# Altium integrated library PFC_Interleaved_V8.1.IntLib: 131 symbols
Pins are listed as number, name and electrical type; pins without a type are passive.

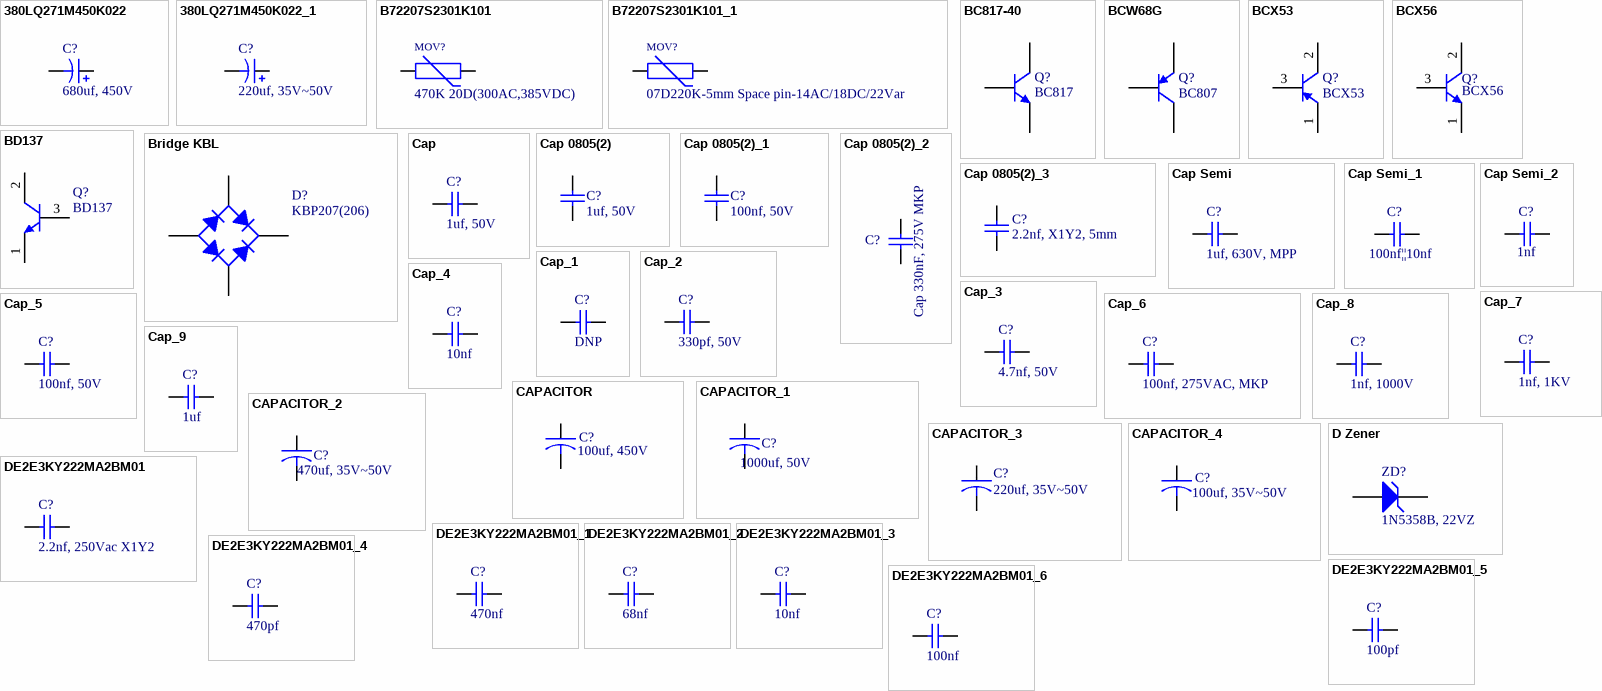
[diagram p0: symbols 380LQ271M450K022 to DE2E3KY222MA2BM01_6]

## 380LQ271M450K022
designator C?, comment 680uf, 450V
PackageReference: Can D35x50mm; Category: Cap TH; Value: 680uf, 450V
signal-integrity model Cap
simulation model Cap
footprint Radial_Cap_25x52 (Axial)
footprint cap - 30mm
footprint cap - 30mm
footprint Cap-electrolytic-680uF-2
pins: 1 +, 2 -

## 380LQ271M450K022_1
designator C?, comment 220uf, 35V~50V
PackageReference: Can D8mmx12mm; Value: 220uf, 35V~50V; Category: Cap TH
signal-integrity model Cap
simulation model Cap
footprint Radial_Cap_25x52 (Axial)
footprint cap - 30mm
footprint Cap - 10 mm
footprint CAP-Elec-8mm*12mm (Footprint not found)
pins: 1 +, 2 -

## B72207S2301K101
designator MOV?, comment 470K 20D(300AC,385VDC)
Value: 470K 20D(300AC,385VDC); PackageReference: Disc 20mm; Category: Varistor TH
footprint varistor
footprint VDR-20D
pins: 1, 2

## B72207S2301K101_1
designator MOV?, comment 07D220K-5mm Space pin-14AC/18DC/22Var
Value: 07D220K-5mm Space pin-14AC/18DC/22Var; PackageReference: Disc 7mm; Category: Varistor TH
footprint varistor
footprint VAR-7D-5mm-1200V
pins: 1, 2

## BC817-40
designator Q?, comment BC817
Value: BC817; Category: Transistor SMD; PackageReference: SOT-23
footprint SOT-23A (SOT-23; 3 Leads; Body 3.1 x 2.5 mm, inc. leads (LxW max))
simulation model BC817-40 (NPN)
signal-integrity model BC817-40
footprint SOT-23
footprint MSOT-23
footprint MSOT-23
pins: 1 B, 2 E, 3 C

## BCW68G
designator Q?, comment BC807
PackageReference: SOT-23; Value: BC807; Category: Transistor SMD
footprint SOT-23A (SOT-23; 3 Leads; Body 3.1 x 2.5 mm, inc. leads (LxW max))
footprint MSOT-23
footprint SOT-23 (SOT-23; 3 Leads; Body 3.1 x 2.5 mm, inc. leads (LxW max))
pins: 1 B, 2 E, 3 C

## BCX53
designator Q?
PackageReference: SOT89; Category: Transistor SMD; Value: BCX53
footprint TO-92A (TO, Flat Index; 3 In-Line, Axial Leads; Body Dia. 4.5mm; Leads 0.51 x 0.48 mm (max))
simulation model 2N3906 (PNP)
signal-integrity model 2N3906
footprint SOT89L-K (SOT89, 3-Leads, Body 4.5x2.4 mm, Pitch 1.5mm, Lead Span 4.1mm, IPC High Density)
pins: 1 E, 2 C, 3 B

## BCX56
designator Q?
PackageReference: SOT89; Category: Transistor SMD; Value: BCX56
footprint TO-92A (TO, Flat Index; 3 In-Line, Axial Leads; Body Dia. 4.5mm; Leads 0.51 x 0.48 mm (max))
simulation model 2N3904 (NPN)
signal-integrity model 2N3904
footprint SOT89L (SOT89, 3-Leads, Body 4.5x2.4 mm, Pitch 1.5mm, Lead Span 4.1mm, IPC High Density)
footprint SOT89L-K
pins: 1 E, 2 C, 3 B

## BD137
designator Q?
Category: Transistor TH; PackageReference: TO-126; Value: BD137
footprint BD137-K
pins: 1 E, 2 C, 3 B

## Bridge KBL
designator D?, comment KBP207(206)
Category: Diode TH; Value: KBP207(206); PackageReference: Bridge Diode TH
footprint KBL406
footprint Diode Bridge KBL
footprint DiodeBridge_KBP210
pins: 1 K, 2 C, 3 C, 4 A

## Cap
designator C?, comment 1uf, 50V
Value: 1uf, 50V; Category: Cap SMD; PackageReference: 0805
footprint 0603(2)
footprint Cap 0805(2)
footprint MKT(100nF, 630V)
footprint CAP RAD-0.3
footprint C-0805
pins: 1, 2
2 alternate drawings of the same symbol

## Cap 0805(2)
designator C?, comment 1uf, 50V
Value: 1uf, 50V; PackageReference: 0805; Category: Cap SMD
footprint 1206-Cap
footprint SMD_CAP_0805
footprint Cap-0805-j
footprint RES1206
footprint res1206
footprint R-1206
footprint C-0805
pins: 1, 2

## Cap 0805(2)_1
designator C?, comment 100nf, 50V
Value: 100nf, 50V; PackageReference: 0805; Category: Cap SMD
footprint 1206-Cap
footprint SMD_CAP_0805
footprint Cap-0805-j
footprint C-0805
footprint C-805
footprint R-0805-C
pins: 1, 2

## Cap 0805(2)_2
designator C?, comment Cap 330nF, 275V MKP
Value: Cap 330nF, 275V MKP; Category: Cap TH; PackageReference: 17x8x15mm(LWH)
footprint Cap 0805(2)
footprint Cap 1206(2)
footprint Res 0805(2)
footprint rad0.2
footprint CAP RAD-0.1
footprint CAP_PolyPro_Bipolar_9
footprint Cap-X
footprint Cap-X
footprint Cap-X-2
pins: 1, 2

## Cap 0805(2)_3
designator C?, comment 2.2nf, X1Y2, 5mm
Value: 2.2nf, X1Y2, 5mm; Category: Cap TH; PackageReference: Disc Pin Space 5mm
footprint Cap 0805(2)
footprint Cap 1206(2)
footprint Res 0805(2)
footprint rad0.2
footprint CAP RAD-0.1
footprint CAP_PolyPro_Bipolar_4
footprint Cap 10nF-2
footprint Cap-TH-5mm
pins: 1, 2

## Cap Semi
designator C?, comment 1uf, 630V, MPP
PackageReference: Radial 15mmx22mm; Value: 1uf, 630V, MPP; Category: Cap TH
simulation model CAP (Semiconductor Capacitor)
signal-integrity model Cap Semi
footprint EC-10
footprint CAP-22mm-MKT-Qourum (FilmCap)
footprint CAP-15mm-22mm-MKT-Qourum-2 (Footprint not found)
pins: 1, 2

## Cap Semi_1
designator C?, comment 100nf||10nf
Value: 100nf||10nf; Category: Cap SMD; PackageReference: 0805
footprint R0805-HV-GREEN
footprint C-0805
pins: 1, 2

## Cap Semi_2
designator C?, comment 1nf
Value: 1nf; Category: Cap SMD; PackageReference: 0805
footprint C0805-GREEN
footprint C-0805
pins: 1, 2

## Cap_1
designator C?, comment Assembly: DNP  (hidden comment: 1nf, 1KV)
Value: 1nf, 1KV; Category: Cap TH; PackageReference: Disck, 5mm Space Pin
footprint RAD-0.3 (Capacitor; 2 Leads)
simulation model CAP (Capacitor)
signal-integrity model Cap
footprint CAPR5.08-7.8X3.2
footprint CAPR2.54-5.1X3.2
footprint RAD-0.2
footprint RAD-0.4
footprint RAD-0.2-S-2 (Radial Cap, Thru-Hole; 2 Leads; 0.2 in Pin Spacing)
pins: 1, 2

## Cap_2
designator C?, comment 330pf, 50V
Value: 330pf, 50V; Category: Cap SMD; PackageReference: 0805
footprint 0603(2)
footprint Cap 0805(2)
footprint MKT(100nF, 630V)
footprint R-0805
pins: 1, 2
2 alternate drawings of the same symbol

## Cap_3
designator C?, comment 4.7nf, 50V
Value: 4.7nf, 50V; Category: Cap SMD; PackageReference: 0805
footprint 0603(2)
footprint Cap 0805(2)
footprint MKT(100nF, 630V)
footprint 0805(2)
footprint Res 0603(2)
footprint Res 0805(2)
footprint C-0805
pins: 1, 2
2 alternate drawings of the same symbol

## Cap_4
designator C?, comment 10nf
Value: 10nf; Category: Cap SMD; PackageReference: 0805
footprint 0603(2)
footprint Cap 0805(2)
footprint MKT(100nF, 630V)
footprint 0805(2)
footprint Res 0603(2)
footprint Res 0805(2)
footprint C-0805
pins: 1, 2
2 alternate drawings of the same symbol

## Cap_5
designator C?, comment 100nf, 50V
Value: 100nf, 50V; Category: Cap SMD; PackageReference: 0805
footprint 0603(2)
footprint Cap 0805(2)
footprint MKT(100nF, 630V)
footprint 0805(2)
footprint Res 0603(2)
footprint Res 0805(2)
footprint C-0805
pins: 1, 2
2 alternate drawings of the same symbol

## Cap_6
designator C?, comment 100nf, 275VAC, MKP
Value: 100nf, 275VAC, MKP; Category: Cap TH
footprint 0603(2)
footprint Cap 0805(2)
footprint MKT(100nF, 630V)
footprint CAP_PolyPro_Bipolar_1
footprint RAD-0.4-AUX (Radial Cap, Thru-Hole; 2 Leads; 0.4 in Pin Spacing)
pins: 1, 2
2 alternate drawings of the same symbol

## Cap_7
designator C?, comment 1nf, 1KV
Value: 1nf, 1KV; Category: Cap TH; PackageReference: Disk 5mm Space pin
footprint 0603(2)
footprint Cap 0805(2)
footprint MKT(100nF, 630V)
footprint CAP RAD-0.4
footprint CAP RAD-0.2
pins: 1, 2
2 alternate drawings of the same symbol

## Cap_8
designator C?, comment 1nf, 1000V
Value: 1nf, 1000V; Category: Cap SMD; PackageReference: 1206
footprint 0603(2)
footprint Cap 0805(2)
footprint MKT(100nF, 630V)
footprint CAP RAD-0.3
footprint C-1206
pins: 1, 2
2 alternate drawings of the same symbol

## Cap_9
designator C?, comment 1uf
Value: 1uf; Category: Cap SMD; PackageReference: 0805
footprint 0603(2)
footprint Cap 0805(2)
footprint MKT(100nF, 630V)
footprint 0805(2)
footprint Res 0603(2)
footprint Res 0805(2)
footprint C-0805
pins: 1, 2
2 alternate drawings of the same symbol

## CAPACITOR
designator C?, comment 100uf, 450V
Value: 100uf, 450V; Category: Cap TH; PackageReference: Can D18mmx35mm
footprint 2220(2)
footprint Cap_Tantal_1
footprint Cap RAD2-5x6.8
footprint Cap_Electrolytic6
footprint Cap Elec(56uF,450V)
footprint Cap_Electrolytic3
footprint Cap RAD7.5-16x35-2
pins: 1, 2

## CAPACITOR_1
designator C?, comment 1000uf, 50V
Value: 1000uf, 50V; Category: Cap TH; PackageReference: Can D12mmx25mm
footprint 2220(2)
footprint Cap_Tantal_1
footprint Cap RAD2-5x6.8
footprint Cap_Electrolytic6
footprint Cap_Electrolytic2
footprint Cap_Electrolytic4
footprint Cap_Electrolytic3
footprint Cap-Elec-12mm*25mm (470uF, 35V)
pins: 1, 2

## CAPACITOR_2
designator C?, comment 470uf, 35V~50V
Value: 470uf, 35V~50V; Category: Cap TH; PackageReference: Can D10mmx20MM
footprint 2220(2)
footprint Cap_Tantal_1
footprint Cap RAD2-5x6.8
footprint Cap_Electrolytic6
footprint Cap_Electrolytic4
footprint Cap_Electrolytic3
footprint Cap_Electrolytic1
pins: 1, 2

## CAPACITOR_3
designator C?, comment 220uf, 35V~50V
Value: 220uf, 35V~50V; Category: Cap TH; PackageReference: Can D8mmx12mm
footprint 2220(2)
footprint Cap_Tantal_1
footprint Cap RAD2-5x6.8
footprint Cap_Electrolytic6
footprint Cap_Electrolytic9
footprint Cap 1206(2)
footprint Cap RAD5-5x5
footprint Cap_Electrolytic8
footprint CAP-Elec-8mm*12mm ((220uF,25V))
pins: 1, 2

## CAPACITOR_4
designator C?, comment 100uf, 35V~50V
Value: 100uf, 35V~50V; Category: Cap TH; PackageReference: Can D8mmx12mm
footprint 2220(2)
footprint Cap_Tantal_1
footprint Cap RAD2-5x6.8
footprint Cap_Electrolytic6
footprint Cap_Electrolytic9
footprint Cap 1206(2)
footprint Cap RAD5-5x5
footprint Cap_Electrolytic8
footprint Cap_Electrolytic5
pins: 1, 2

## D Zener
designator ZD?, comment 1N5358B, 22VZ
Value: 1N5358B, 22VZ; Category: Diode TH; PackageReference: DO-35-2
footprint Diode_Vertical3
pins: 1 A, 2 K

## DE2E3KY222MA2BM01
designator C?, comment 2.2nf, 250Vac X1Y2
Value: 2.2nf, 250Vac X1Y2; PackageReference: Disk D8x5mm; Category: Cap TH
signal-integrity model Cap
simulation model Cap
footprint Caprad_7.5mm (RADIAL CAPACITOR)
footprint Caprad_7.5mm (RADIAL CAPACITOR)
footprint Cap 10nF-2
footprint rad-0.2 (Radial Cap, Thru-Hole; 2 Leads; 0.2 in Pin Spacing)
footprint CAP RAD-0.2
footprint CAP-RAD-7.5mm-PFC
pins: 1, 2

## DE2E3KY222MA2BM01_1
designator C?, comment 470nf
Value: 470nf; PackageReference: 0805; Category: Cap SMD
signal-integrity model Cap
simulation model Cap
footprint Caprad_7.5mm (RADIAL CAPACITOR)
footprint Caprad_7.5mm (RADIAL CAPACITOR)
footprint Cap 10nF-2
footprint RESISTOR-RESC2012-0805
footprint R-0805
footprint C-0805
pins: 1, 2

## DE2E3KY222MA2BM01_2
designator C?, comment 68nf
Value: 68nf; PackageReference: 0805; Category: Cap SMD
signal-integrity model Cap
simulation model Cap
footprint Caprad_7.5mm (RADIAL CAPACITOR)
footprint Caprad_7.5mm (RADIAL CAPACITOR)
footprint Cap 10nF-2
footprint RESISTOR-RESC2012-0805
footprint R-0805
footprint C-0805
pins: 1, 2

## DE2E3KY222MA2BM01_3
designator C?, comment 10nf
Value: 10nf; PackageReference: 0805; Category: Cap SMD
signal-integrity model Cap
simulation model Cap
footprint Caprad_7.5mm (RADIAL CAPACITOR)
footprint Caprad_7.5mm (RADIAL CAPACITOR)
footprint Cap 10nF-2
footprint CAP-RAD-7.5mm-PFC
footprint RESISTOR-RESC2012-0805
footprint R-0805
footprint C-0805
pins: 1, 2

## DE2E3KY222MA2BM01_4
designator C?, comment 470pf
Value: 470pf; PackageReference: 0805; Category: Cap SMD
signal-integrity model Cap
simulation model Cap
footprint Caprad_7.5mm (RADIAL CAPACITOR)
footprint Caprad_7.5mm (RADIAL CAPACITOR)
footprint Cap 10nF-2
footprint CAP-RAD-7.5mm-PFC
footprint RESISTOR-RESC2012-0805
footprint R-0805
footprint C-0805
pins: 1, 2

## DE2E3KY222MA2BM01_5
designator C?, comment 100pf
Value: 100pf; PackageReference: 0805; Category: Cap SMD
signal-integrity model Cap
simulation model Cap
footprint Caprad_7.5mm (RADIAL CAPACITOR)
footprint Caprad_7.5mm (RADIAL CAPACITOR)
footprint Cap 10nF-2
footprint CAP-RAD-7.5mm-PFC
footprint RESISTOR-RESC2012-0805
footprint R-0805
footprint C-0805
pins: 1, 2

## DE2E3KY222MA2BM01_6
designator C?, comment 100nf
Value: 100nf; PackageReference: 0805; Category: Cap SMD
signal-integrity model Cap
simulation model Cap
footprint Caprad_7.5mm (RADIAL CAPACITOR)
footprint Caprad_7.5mm (RADIAL CAPACITOR)
footprint Cap 10nF-2
footprint CAP-RAD-7.5mm-PFC
footprint RESISTOR-RESC2012-0805
footprint RESISTOR-RESC2012-0805
footprint R-0805
footprint C-0805
pins: 1, 2

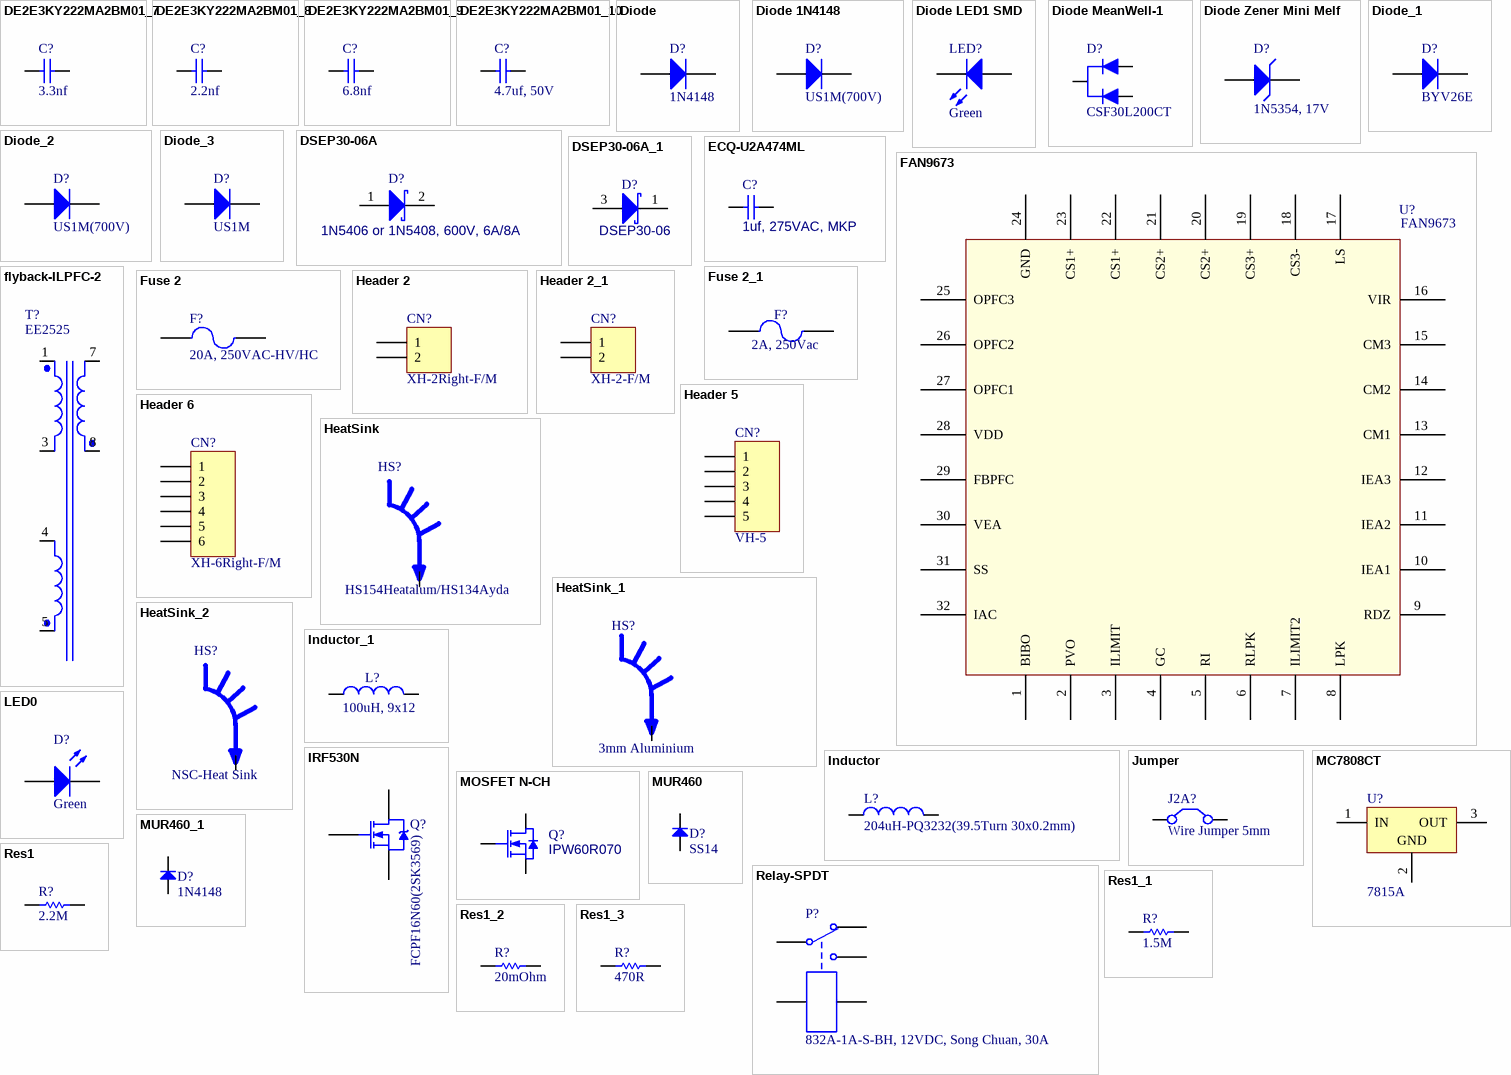
[diagram p1: symbols DE2E3KY222MA2BM01_7 to Res1_3]

## DE2E3KY222MA2BM01_7
designator C?, comment 3.3nf
Value: 3.3nf; PackageReference: 0805; Category: Cap SMD
signal-integrity model Cap
simulation model Cap
footprint Caprad_7.5mm (RADIAL CAPACITOR)
footprint Caprad_7.5mm (RADIAL CAPACITOR)
footprint Cap 10nF-2
footprint CAP-RAD-7.5mm-PFC
footprint RESISTOR-RESC2012-0805
footprint R-0805
footprint C-0805
pins: 1, 2

## DE2E3KY222MA2BM01_8
designator C?, comment 2.2nf
Value: 2.2nf; PackageReference: 0805; Category: Cap SMD
signal-integrity model Cap
simulation model Cap
footprint Caprad_7.5mm (RADIAL CAPACITOR)
footprint Caprad_7.5mm (RADIAL CAPACITOR)
footprint Cap 10nF-2
footprint RESISTOR-RESC2012-0805
footprint R-0805
footprint C-0805
pins: 1, 2

## DE2E3KY222MA2BM01_9
designator C?, comment 6.8nf
Value: 6.8nf; PackageReference: 0805; Category: Cap SMD
signal-integrity model Cap
simulation model Cap
footprint Caprad_7.5mm (RADIAL CAPACITOR)
footprint Caprad_7.5mm (RADIAL CAPACITOR)
footprint Cap 10nF-2
footprint RESISTOR-RESC2012-0805
footprint RESISTOR-RESC2012-0805
footprint R-0805
footprint C-0805
pins: 1, 2

## DE2E3KY222MA2BM01_10
designator C?, comment 4.7uf, 50V
Value: 4.7uf, 50V; PackageReference: 1206; Category: Cap SMD
signal-integrity model Cap
simulation model Cap
footprint Caprad_7.5mm (RADIAL CAPACITOR)
footprint Caprad_7.5mm (RADIAL CAPACITOR)
footprint Cap 10nF-2
footprint CAP-RAD-7.5mm-PFC
footprint res1206
footprint C-1206
pins: 1, 2

## Diode
designator D?, comment 1N4148
PackageReference: SOD-123-2; Category: Diode SMD; Value: 1N4148
footprint DSO-C2/X3.3 (DO-214-AB/SMC; 2 C-Bend Leads; Body 7.9 x 5.9 mm, inc. leads (LxW))
simulation model DIODE (Diode)
signal-integrity model Diode
footprint DIODE-0.4 (Diode, Thru-Hole; 2 Leads; 0.4 in Pin Spacing)
footprint Diode Axial3
footprint Diode Axial4
footprint Diode Melf
footprint Diode 10.46-5.3x2.8
footprint Diode_Vertical3
footprint Diode Axial1
footprint DIOM7959X262N
footprint ss110
footprint SOD-123-2
pins: 1 A, 2 K

## Diode 1N4148
designator D?, comment US1M(700V)
PackageReference: SMA; Category: Diode SMD; Partnumber: =Comment; Value: US1M(700V)
footprint DO-35 (Diode, Axial; Body 3.8 x 1.9 mm (LxDia. max), Lead Dia. 0.53 mm (max))
simulation model 1N4148 (DIODE)
signal-integrity model 1N4148
footprint MINIMELF
footprint DO-214
footprint SOD-123-2
footprint DIODE-0.4 (Diode, Thru-Hole; 2 Leads; 0.4 in Pin Spacing)
footprint DO-214AC-SMA-2
pins: 1 A, 2 K

## Diode LED1 SMD
designator LED?, comment Green
Value: Green; Category: LED SMD; PackageReference: 0805
footprint Diode LED1
footprint Diode Led 5mm
footprint LED 0805
footprint LED 1206
footprint LED-0805
pins: 1 A, 2 K

## Diode MeanWell-1
designator D?, comment CSF30L200CT
Value: CSF30L200CT; Category: Diode TH; PackageReference: TO-220F
footprint CR-GREEN
footprint TO220F-Bent-Leg (TO, Thru-Hole, Vertical, Heatsink Mounted; 3 In-Line Leads; Pitch 2.54 mm)
pins: 1 A1, 2 K, 3 A2

## Diode Zener Mini Melf
designator D?, comment 1N5354, 17V
Value: 1N5354, 17V; Category: Diode TH; PackageReference: D0-204
footprint MELF DO-213AB
footprint DO-204AL
footprint Diode-AXIAL-12mm-1200V
pins: 1 A, 2 K

## Diode_1
designator D?, comment BYV26E
PackageReference: SOD-57; Category: Diode TH; Value: BYV26E
footprint DSO-C2/X3.3 (DO-214-AB/SMC; 2 C-Bend Leads; Body 7.9 x 5.9 mm, inc. leads (LxW))
simulation model DIODE (Diode)
signal-integrity model Diode
footprint DIODE-0.4 (Diode, Thru-Hole; 2 Leads; 0.4 in Pin Spacing)
footprint Diode Axial4
footprint Diode 7.8-4.6x2
footprint Diode 10.46-5.3x2.8
footprint Diode_Vertical3
pins: 1 A, 2 K

## Diode_2
designator D?, comment US1M(700V)
PackageReference: SMA; Category: Diode SMD; Value: US1M(700V)
footprint DSO-C2/X3.3 (DO-214-AB/SMC; 2 C-Bend Leads; Body 7.9 x 5.9 mm, inc. leads (LxW))
simulation model DIODE (Diode)
signal-integrity model Diode
footprint DIODE-0.4 (Diode, Thru-Hole; 2 Leads; 0.4 in Pin Spacing)
footprint Diode Axial3
footprint Diode Axial4
footprint Diode Melf
footprint Diode 10.46-5.3x2.8
footprint DO-214AC-SMA-2 (SMA Molded Diode, 2-Leads, Body 4.3x2.7mm, SOD-128 (www.Smartw.ir))
footprint Diode Axial1
pins: 1 A, 2 K

## Diode_3
designator D?, comment US1M
PackageReference: SMA; Category: Diode SMD; Value: US1M
footprint DSO-C2/X3.3 (DO-214-AB/SMC; 2 C-Bend Leads; Body 7.9 x 5.9 mm, inc. leads (LxW))
simulation model DIODE (Diode)
signal-integrity model Diode
footprint DIODE-0.4 (Diode, Thru-Hole; 2 Leads; 0.4 in Pin Spacing)
footprint Diode Axial3
footprint Diode Axial4
footprint Diode Melf
footprint Diode 10.46-5.3x2.8
footprint DO-214AC-SMA-2 (SMA Molded Diode, 2-Leads, Body 4.3x2.7mm, SOD-128 (www.Smartw.ir))
footprint Diode Axial1
pins: 1 A, 2 K

## DSEP30-06A
designator D?, comment 1N5406 or 1N5408, 600V, 6A/8A
PackageReference: DO-201AD; Value: 1N5406 or 1N5408, 600V, 6A/8A; Category: Diode TH
footprint MUR460
pins: 1, 2

## DSEP30-06A_1
designator D?, comment DSEP30-06
PackageReference: TO-247-F2; Value: DSEP30-06; Category: Diode TH
footprint TO247-2PIN-PFC-2
footprint Diode TO247 2Pin
footprint TO247-2Pin-PFC-4
footprint TO247-2Pin-PFC-HC
pins: 1, 3

## ECQ-U2A474ML
designator C?, comment 1uf, 275VAC, MKP
PackageReference: Radial 26x16x8; Category: Cap TH; Value: 1uf, 275VAC, MKP
signal-integrity model Cap
simulation model Cap
footprint Cap_22.5mm (FilmCap)
footprint B32774D1155K000
footprint CAap-MKP-27.5mm-B32774D1155K000
footprint CAap-MKP-27.5mm-B32774D1155K000-3
pins: 1, 2

## FAN9673
designator U?
Category: IC SMD; PackageReference: LQFP-32; Value: FAN9673
footprint LQFP-32-FAN9673
pins: 1 BIBO, 2 PVO, 3 ILIMIT, 4 GC, 5 RI, 6 RLPK, 7 ILIMIT2, 8 LPK, 9 RDZ, 10 IEA1, 11 IEA2, 12 IEA3, 13 CM1, 14 CM2, 15 CM3, 16 VIR, 17 LS, 18 CS3-, 19 CS3+, 20 CS2+, 21 CS2+, 22 CS1+, 23 CS1+, 24 GND, 25 OPFC3, 26 OPFC2, 27 OPFC1, 28 VDD, 29 FBPFC, 30 VEA, 31 SS, 32 IAC

## flyback-ILPFC-2
designator T?, comment EE2525
Value: EE2525; Category: Transformer TH; PackageReference: EE2525
footprint EE2525_Comb4
pins: 1, 3, 4, 5, 7, 8

## Fuse 2
designator F?, comment 20A, 250VAC-HV/HC
PackageReference: Fuse 5x20; Category: Fuse TH; Value: 20A, 250VAC-HV/HC
footprint PIN-W2/E2.8 (Thru-Hole; 2 Leads)
simulation model FUSE (Spice Subcircuit)
footprint Fuse
footprint Fuse Combination
footprint Fuse 5x20_V2
pins: 1, 2

## Fuse 2_1
designator F?, comment 2A, 250Vac
PackageReference: 20mmx5mm; Category: Fuse TH; Value: 2A, 250Vac
footprint PIN-W2/E2.8 (Fuse; 2 Leads)
simulation model FUSE (Spice Subcircuit)
footprint CAP RAD-0.2
footprint GlassFuse
footprint RAD-0.2
footprint Fuse Combination
pins: 1, 2

## Header 2
designator CN?, comment XH-2Right-F/M
Category: Connector TH; PackageReference: XH-2Right-F/M; Value: XH-2Right-F/M
footprint HDR1X2 (Connector; Header; 2 Position)
signal-integrity model Connector
footprint Connector_XH_2
footprint Connector-XH-2
pins: 1, 2

## Header 2_1
designator CN?, comment XH-2-F/M
Category: Connector TH; PackageReference: XH-2-F/M; Value: XH-2-F/M
footprint HDR1X2 (Connector; Header; 2 Position)
signal-integrity model Connector
footprint Connector_XH_2
footprint Connector-XH-2
pins: 1, 2

## Header 5
designator CN?, comment VH-5
Category: Connector TH; PackageReference: VH-5; Value: VH-5
footprint HDR1X5 (Connector; Header; 5 Position)
signal-integrity model Connector
footprint CONNECTOR-VH-5-RIGHT&SIMPLE
pins: 1, 2, 3, 4, 5

## Header 6
designator CN?, comment XH-6Right-F/M
Category: Connector TH; PackageReference: XH-6Right-F/M; Value: XH-6Right-F/M
footprint Connector-XH-6
signal-integrity model Connector
pins: 1, 2, 3, 4, 5, 6

## HeatSink
designator HS?, comment HS154Heatalum/HS134Ayda
Category: Heat Sink; PackageReference: 180x125x55mm/81.03x40.04x150mm; Value: HS154Heatalum/HS134Ayda
footprint HeatSink-1
footprint Heatsink-2
footprint Heatsink-3
footprint Heatsink-10H
footprint Heatsink-4
footprint HeatSink PH51
footprint HeatSink-HC-1
footprint Heatsink-vertical
pins: 1

## HeatSink_1
designator HS?, comment 3mm Aluminium
Category: Heat Sink; PackageReference: 3mm Aluminium; Value: 3mm Aluminium
footprint HeatSink-1
footprint Heatsink-2
footprint Heatsink-3
footprint Heatsink-10H
footprint Heatsink-4
footprint HeatSink PH51
footprint HeatSink-HC--PFC-2
footprint Heatsink-vertical
pins: 1

## HeatSink_2
designator HS?, comment NSC-Heat Sink
Category: Heat Sink; PackageReference: NSC-Heat Sink; Value: NSC-Heat Sink
footprint HeatSink-1
footprint Heatsink-2
footprint Heatsink-3
footprint Heatsink-10H
footprint Heatsink-4
footprint HeatSink PH51
footprint HeatSink12
footprint Heatsink-vertical
pins: 1

## Inductor
designator L?, comment 204uH-PQ3232(39.5Turn 30x0.2mm)
PackageReference: PQ3232; Value: 204uH-PQ3232(39.5Turn 30x0.2mm); Category: Inductor TH
footprint TRANS-PQ3535-2
footprint INDC1608L (Chip Inductor, Body 1.6x0.8mm, IPC High Density)
footprint 2029 (Chip Inductor, Body 2.0x1.2mm, IPC High Density)
footprint 0603 (Chip Inductor, Body 0.6x0.3mm, IPC High Density)
footprint INDC3216 (Chip Inductor, Body 3.2x1.6mm, IPC High Density)
footprint INDC4532 (Chip Inductor, Body 4.5x3.2mm, IPC High Density)
simulation model INDUCTOR (Inductor)
signal-integrity model Inductor
pins: 1, 2

## Inductor_1
designator L?, comment 100uH, 9x12
PackageReference: Can 9x12; Value: 100uH, 9x12; Category: Inductor TH
footprint INDC1005AL (Chip Inductor, Body 1.0x0.5mm, IPC High Density)
footprint INDC1608L (Chip Inductor, Body 1.6x0.8mm, IPC High Density)
footprint INDC2012L (Chip Inductor, Body 2.0x1.2mm, IPC High Density)
footprint INDC0603L (Chip Inductor, Body 0.6x0.3mm, IPC High Density)
footprint INDC3216AL (Chip Inductor, Body 3.2x1.6mm, IPC High Density)
footprint INDC4532L (Chip Inductor, Body 4.5x3.2mm, IPC High Density)
simulation model INDUCTOR (Inductor)
signal-integrity model Inductor
footprint Inductor1(3.3uH, 5A)
footprint Inductor1(3.3uH, 3A)
footprint Inductor2(3.3uH, 3A)
footprint Cap_Electrolytic3
footprint Cap_Electrolytic5
footprint Inductor-Bar-P5-D10
pins: 1, 2

## IRF530N
designator Q?, comment FCPF16N60(2SK3569)
PackageReference: TO-220F; Category: Mosfet TH; Value: FCPF16N60(2SK3569)
footprint TO-220AB (TO, Thru-Hole, Vertical, Heatsink Mounted; 3 In-Line Leads; Pitch 2.54 mm)
simulation model IRF530N (SUBCKT)
footprint TO220-1
footprint TO220-1
footprint TO220F-Bent-Leg (TO, Thru-Hole, Vertical, Heatsink Mounted; 3 In-Line Leads; Pitch 2.54 mm)
pins: 1 G, 2 D, 3 S

## Jumper
designator J2A?, comment Wire Jumper 5mm
Value: Wire Jumper 5mm; Category: Wire Jumper; PackageReference: Wire Jumper-5mm
footprint Jumper-5mm
pins: 1 C1, 2 C2

## LED0
designator D?, comment Green
PackageReference: 0805; Category: LED SMD; Value: Green
footprint LED-0805
simulation model LED0 (Diode)
pins: 1 A, 2 K

## MC7808CT
designator U?, comment 7815A
Value: 7815A; Category: IC TH; PackageReference: TO-220F
footprint TO-252 - DUPLICATE
footprint TO220F-Bent-Leg (TO, Thru-Hole, Vertical, Heatsink Mounted; 3 In-Line Leads; Pitch 2.54 mm)
pins: 1 IN (power), 2 GND (power), 3 OUT (power)

## MOSFET N-CH
designator Q?, comment IPW60R070
PackageReference: TO-247; Value: IPW60R070; Category: Mosfet TH
footprint Mos TO247
footprint TO247-3Pin-PFC-2
footprint TO247-3Pin-PFC-HC-1
pins: 1 G, 2 D, 3 S
1 alternate drawing of the same symbol

## MUR460
designator D?, comment SS14
PackageReference: SMA; Value: SS14; Category: Diode SMD; Partnumber: =Comment
footprint DO-35 (Diode, Axial; Body 3.8 x 1.9 mm (LxDia. max), Lead Dia. 0.53 mm (max))
simulation model 1N4148 (DIODE)
signal-integrity model 1N4148
footprint MUR460
footprint D_SMA (SMA Molded Diode, 2-Leads, Body 4.3x2.7mm, SOD-128 (www.Smartw.ir))
footprint DO214
footprint DO-214AC-SMA-2
pins: 1 A, 2 K

## MUR460_1
designator D?, comment 1N4148
PackageReference: SOD-123-2; Value: 1N4148; Category: Diode TH
footprint DO-35 (Diode, Axial; Body 3.8 x 1.9 mm (LxDia. max), Lead Dia. 0.53 mm (max))
simulation model 1N4148 (DIODE)
signal-integrity model 1N4148
footprint MUR460
footprint Diode-TH-Vertical-2
footprint Diode-AXIAL-0.4-MeanWell-2
footprint SOD-123-2
pins: 1 A, 2 K

## Relay-SPDT
designator P?, comment 832A-1A-S-BH, 12VDC, Song Chuan, 30A
PackageReference: MODULE5B; Category: Relay TH; Value: 832A-1A-S-BH, 12VDC, Song Chuan, 30A
footprint DIP-P5/X1.65 (DIP; 5 Round Pins; Row Space 15.24 mm; Pitch 2.54 mm)
simulation model SPDTRELAY (Spice Subcircuit)
footprint Model Name (Footprint not found)
footprint RELAY SPDT
footprint 832A1AS12VDCVDE-K
pins: 1 2, 2 3, 3 1, 4 5, 5 4

## Res1
designator R?, comment 2.2M
PackageReference: 1206; Value: 2.2M; Category: Resistor SMD
footprint AXIAL-0.3 (Resistor; 2 Leads)
simulation model RESISTOR (Resistor)
signal-integrity model Res
footprint AXIAL-0.31
footprint R1206
footprint RES 1206 (3216X08L)
footprint Res 0805(2)
footprint R_0805
footprint res1206
footprint R-1206
pins: 1, 2

## Res1_1
designator R?, comment 1.5M
PackageReference: 1206; Value: 1.5M; Category: Resistor SMD
footprint AXIAL-0.3 (Resistor; 2 Leads)
simulation model RESISTOR (Resistor)
signal-integrity model Res
footprint AXIAL-0.31
footprint R1206
footprint RES 1206 (3216X08L)
footprint Res 0805(2)
footprint R_0805
footprint res1206
footprint R-1206
pins: 1, 2

## Res1_2
designator R?, comment 20mOhm
PackageReference: 2512; Value: 20mOhm; Category: Resistor SMD
footprint res2512
simulation model RESISTOR (Resistor)
signal-integrity model Res
footprint R-2512
pins: 1, 2

## Res1_3
designator R?, comment 470R
PackageReference: 0805; Value: 470R; Category: Resistor SMD
footprint AXIAL-0.3 (Axial Device, Thru-Hole; 2 Leads; 0.3 in Pin Spacing)
simulation model RESISTOR (Resistor)
signal-integrity model Res
footprint RESISTOR-RESC2012-0805
footprint R-0805
pins: 1, 2

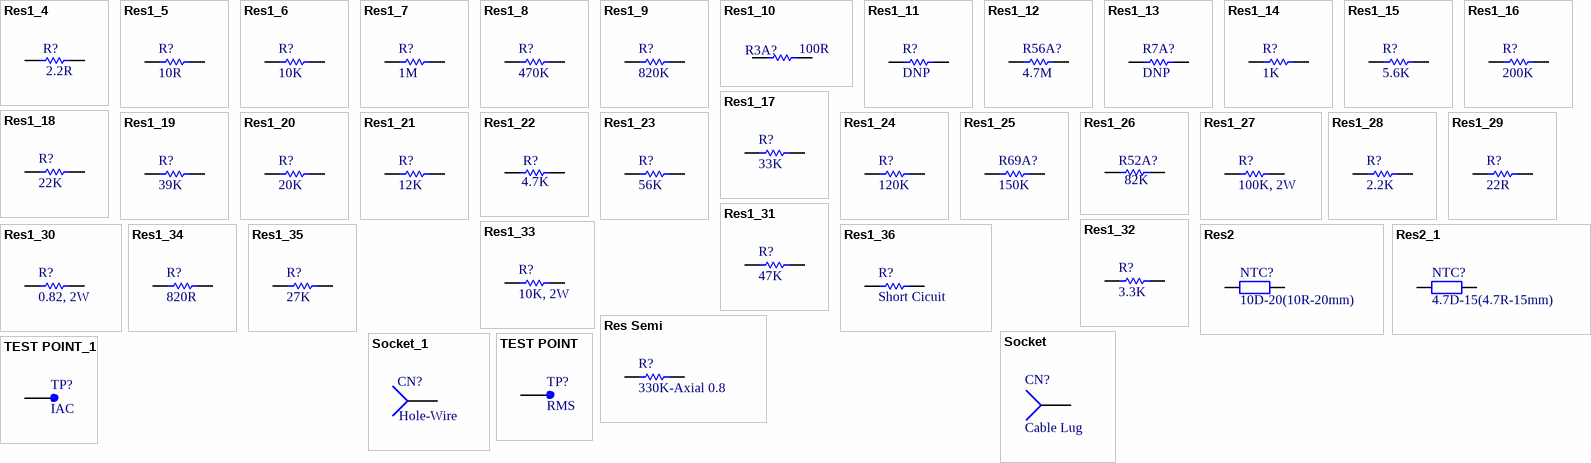
[diagram p2: symbols Res1_4 to TEST POINT_1]

## Res1_4
designator R?, comment 2.2R
PackageReference: 0805; Value: 2.2R; Category: Resistor SMD
footprint AXIAL-0.3 (Resistor; 2 Leads)
simulation model RESISTOR (Resistor)
signal-integrity model Res
footprint AXIAL-0.31
footprint R1206
footprint RES 1206 (3216X08L)
footprint Res 0805(2)
footprint R_0805
footprint res2512
footprint res1206
footprint R-1206
footprint R-0805
pins: 1, 2

## Res1_5
designator R?, comment 10R
PackageReference: 0805; Value: 10R; Category: Resistor SMD
footprint AXIAL-0.3 (Resistor; 2 Leads)
simulation model RESISTOR (Resistor)
signal-integrity model Res
footprint AXIAL-0.31
footprint R1206
footprint RES 1206 (3216X08L)
footprint Res 0805(2)
footprint R_0805
footprint res2512
footprint res1206
footprint R-1206
footprint R-0805
pins: 1, 2

## Res1_6
designator R?, comment 10K
PackageReference: 0805; Value: 10K; Category: Resistor SMD
footprint AXIAL-0.3 (Axial Device, Thru-Hole; 2 Leads; 0.3 in Pin Spacing)
simulation model RESISTOR (Resistor)
signal-integrity model Res
footprint RESISTOR-RESC2012-0805
footprint R-0805
pins: 1, 2

## Res1_7
designator R?, comment 1M
PackageReference: 1206; Value: 1M; Category: Resistor SMD
footprint AXIAL-0.3 (Resistor; 2 Leads)
simulation model RESISTOR (Resistor)
signal-integrity model Res
footprint AXIAL-0.31
footprint R1206
footprint RES 1206 (3216X08L)
footprint Res 0805(2)
footprint R_0805
footprint RES1206
footprint R-1206
pins: 1, 2

## Res1_8
designator R?, comment 470K
PackageReference: 1206; Value: 470K; Category: Resistor SMD
footprint AXIAL-0.3 (Resistor; 2 Leads)
simulation model RESISTOR (Resistor)
signal-integrity model Res
footprint AXIAL-0.31
footprint R1206
footprint RES 1206 (3216X08L)
footprint Res 0805(2)
footprint R_0805
footprint RES1206
footprint R-1206
pins: 1, 2

## Res1_9
designator R?, comment 820K
PackageReference: 1206; Value: 820K; Category: Resistor SMD
footprint AXIAL-0.3 (Resistor; 2 Leads)
simulation model RESISTOR (Resistor)
signal-integrity model Res
footprint AXIAL-0.31
footprint R1206
footprint RES 1206 (3216X08L)
footprint Res 0805(2)
footprint R_0805
footprint RES1206
footprint R-1206
pins: 1, 2

## Res1_10
designator R3A?, comment 100R
Value: 100R; Category: Resistor SMD; PackageReference: 1206
footprint AXIAL-0.3 (Axial Device, Thru-Hole; 2 Leads; 0.3 in Pin Spacing)
simulation model RESISTOR (Resistor)
signal-integrity model Res
footprint 0805(2)
footprint AXIAL-0.4
footprint res 0805(2)
footprint RESC1608X55X25ML10T15 (Chip Resistor, 2-Leads, Body 1.60x0.80mm, IPC Low Density)
footprint R-1206
pins: 1, 2

## Res1_11
designator R?, comment Assembly: DNP  (hidden comment: 6M)
PackageReference: 1206; Value: 6M; Category: Resistor SMD
footprint AXIAL-0.3 (Resistor; 2 Leads)
simulation model RESISTOR (Resistor)
signal-integrity model Res
footprint AXIAL-0.31
footprint R1206
footprint RES 1206 (3216X08L)
footprint Res 0805(2)
footprint R_0805
footprint RES1206
footprint R-1206
pins: 1, 2

## Res1_12
designator R56A?, comment 4.7M
PackageReference: 1206; Value: 4.7M; Category: Resistor SMD
footprint AXIAL-0.3 (Resistor; 2 Leads)
simulation model RESISTOR (Resistor)
signal-integrity model Res
footprint AXIAL-0.31
footprint R1206
footprint RES 1206 (3216X08L)
footprint Res 0805(2)
footprint R_0805
footprint RES1206
footprint R-1206
pins: 1, 2

## Res1_13
designator R7A?, comment Assembly: DNP  (hidden comment: 0R)
PackageReference: 1206; Value: 0R; Category: Resistor SMD
footprint AXIAL-0.3 (Resistor; 2 Leads)
simulation model RESISTOR (Resistor)
signal-integrity model Res
footprint AXIAL-0.31
footprint R1206
footprint RES 1206 (3216X08L)
footprint Res 0805(2)
footprint R_0805
footprint RES1206
footprint R-1206
pins: 1, 2

## Res1_14
designator R?, comment 1K
Value: 1K; PackageReference: 0805; Category: Resistor SMD
footprint AXIAL-0.3 (Resistor; 2 Leads)
simulation model RESISTOR (Resistor)
signal-integrity model Res
footprint AXIAL-0.31
footprint R1206
footprint RES 1206 (3216X08L)
footprint SMD_RES_0805
footprint Res-0805-j
footprint 1206-JAM
footprint R-1206
footprint R-0805
pins: 1, 2

## Res1_15
designator R?, comment 5.6K
Value: 5.6K; PackageReference: 0805; Category: Resistor SMD
footprint AXIAL-0.3 (Resistor; 2 Leads)
simulation model RESISTOR (Resistor)
signal-integrity model Res
footprint AXIAL-0.31
footprint R1206
footprint RES 1206 (3216X08L)
footprint SMD_RES_0805
footprint Res-0805-j
footprint 1206-JAM
footprint R-1206
footprint R-0805
footprint R-0805-C
pins: 1, 2

## Res1_16
designator R?, comment 200K
PackageReference: 1206; Value: 200K; Category: Resistor SMD
footprint AXIAL-0.3 (Resistor; 2 Leads)
simulation model RESISTOR (Resistor)
signal-integrity model Res
footprint AXIAL-0.31
footprint R1206
footprint RES 1206 (3216X08L)
footprint Res 0805(2)
footprint R_0805
footprint RESISTOR-RESC2012-0805
footprint R-1206
pins: 1, 2

## Res1_17
designator R?, comment 33K
PackageReference: 0805; Value: 33K; Category: Resistor SMD
footprint AXIAL-0.3 (Resistor; 2 Leads)
simulation model RESISTOR (Resistor)
signal-integrity model Res
footprint AXIAL-0.31
footprint R1206
footprint RES 1206 (3216X08L)
footprint Res 0805(2)
footprint R_0805
footprint RESISTOR-RESC2012-0805
footprint R-0805
pins: 1, 2

## Res1_18
designator R?, comment 22K
PackageReference: 0805; Value: 22K; Category: Resistor SMD
footprint AXIAL-0.3 (Resistor; 2 Leads)
simulation model RESISTOR (Resistor)
signal-integrity model Res
footprint AXIAL-0.31
footprint R1206
footprint RES 1206 (3216X08L)
footprint Res 0805(2)
footprint R_0805
footprint RES1206
footprint RESISTOR-RESC2012-0805
footprint R-0805
pins: 1, 2

## Res1_19
designator R?, comment 39K
PackageReference: 0805; Value: 39K; Category: Resistor SMD
footprint AXIAL-0.3 (Resistor; 2 Leads)
simulation model RESISTOR (Resistor)
signal-integrity model Res
footprint AXIAL-0.31
footprint R1206
footprint RES 1206 (3216X08L)
footprint Res 0805(2)
footprint R_0805
footprint RES1206
footprint RESISTOR-RESC2012-0805
footprint R-0805
pins: 1, 2

## Res1_20
designator R?, comment 20K
PackageReference: 0805; Value: 20K; Category: Resistor SMD
footprint AXIAL-0.3 (Resistor; 2 Leads)
simulation model RESISTOR (Resistor)
signal-integrity model Res
footprint AXIAL-0.31
footprint R1206
footprint RES 1206 (3216X08L)
footprint Res 0805(2)
footprint R_0805
footprint RES1206
footprint RESISTOR-RESC2012-0805
footprint R-0805
pins: 1, 2

## Res1_21
designator R?, comment 12K
PackageReference: 0805; Value: 12K; Category: Resistor SMD
footprint AXIAL-0.3 (Resistor; 2 Leads)
simulation model RESISTOR (Resistor)
signal-integrity model Res
footprint AXIAL-0.31
footprint R1206
footprint RES 1206 (3216X08L)
footprint Res 0805(2)
footprint R_0805
footprint RES1206
footprint RESISTOR-RESC2012-0805
footprint R-0805
pins: 1, 2

## Res1_22
designator R?, comment 4.7K
PackageReference: 0805; Value: 4.7K; Category: Resistor SMD
footprint AXIAL-0.3 (Resistor; 2 Leads)
simulation model RESISTOR (Resistor)
signal-integrity model Res
footprint AXIAL-0.31
footprint R1206
footprint RES 1206 (3216X08L)
footprint Res 0805(2)
footprint R_0805
footprint RES1206
footprint RESISTOR-RESC2012-0805
footprint RESISTOR-RESC2012-0805
footprint R-0805
pins: 1, 2

## Res1_23
designator R?, comment 56K
PackageReference: 0805; Value: 56K; Category: Resistor SMD
footprint AXIAL-0.3 (Resistor; 2 Leads)
simulation model RESISTOR (Resistor)
signal-integrity model Res
footprint AXIAL-0.31
footprint R1206
footprint RES 1206 (3216X08L)
footprint Res 0805(2)
footprint R_0805
footprint RES1206
footprint RESISTOR-RESC2012-0805
footprint R-0805
pins: 1, 2

## Res1_24
designator R?, comment 120K
PackageReference: 0805; Value: 120K; Category: Resistor SMD
footprint AXIAL-0.3 (Resistor; 2 Leads)
simulation model RESISTOR (Resistor)
signal-integrity model Res
footprint AXIAL-0.31
footprint R1206
footprint RES 1206 (3216X08L)
footprint Res 0805(2)
footprint R_0805
footprint RESISTOR-RESC2012-0805
footprint RESISTOR-RESC2012-0805
footprint R-0805
pins: 1, 2

## Res1_25
designator R69A?, comment 150K
PackageReference: 0805; Value: 150K; Category: Resistor SMD
footprint AXIAL-0.3 (Resistor; 2 Leads)
simulation model RESISTOR (Resistor)
signal-integrity model Res
footprint AXIAL-0.31
footprint R1206
footprint RES 1206 (3216X08L)
footprint Res 0805(2)
footprint R_0805
footprint RES1206
footprint RESISTOR-RESC2012-0805
footprint R-0805
pins: 1, 2

## Res1_26
designator R52A?, comment 82K
PackageReference: 0805; Value: 82K; Category: Resistor SMD
footprint AXIAL-0.3 (Resistor; 2 Leads)
simulation model RESISTOR (Resistor)
signal-integrity model Res
footprint AXIAL-0.31
footprint R1206
footprint RES 1206 (3216X08L)
footprint Res 0805(2)
footprint R_0805
footprint RESISTOR-RESC2012-0805
footprint RESISTOR-RESC2012-0805
footprint R-0805
pins: 1, 2

## Res1_27
designator R?, comment 100K, 2W
Value: 100K, 2W; Category: Resistor TH; PackageReference: Axial 0.4
footprint AXIAL-0.3 (Axial Device, Thru-Hole; 2 Leads; 0.3 in Pin Spacing)
simulation model RESISTOR (Resistor)
signal-integrity model Res
footprint 0805(2)
footprint AXIAL-0.5
footprint RES AXIAL-0.4
footprint Cap 1206(2)
footprint RES AXIAL-0.6
footprint Resistor_Vertical3
pins: 1, 2

## Res1_28
designator R?, comment 2.2K
Value: 2.2K; Category: Resistor SMD; PackageReference: 0805
footprint AXIAL-0.3 (Axial Device, Thru-Hole; 2 Leads; 0.3 in Pin Spacing)
simulation model RESISTOR (Resistor)
signal-integrity model Res
footprint 0805(2)
footprint AXIAL-0.4
footprint res 0805(2)
footprint Res 0603(2)
footprint R-0805
pins: 1, 2

## Res1_29
designator R?, comment 22R
Value: 22R; Category: Resistor SMD; PackageReference: 0805
footprint AXIAL-0.3 (Axial Device, Thru-Hole; 2 Leads; 0.3 in Pin Spacing)
simulation model RESISTOR (Resistor)
signal-integrity model Res
footprint 0805(2)
footprint AXIAL-0.4
footprint res 0805(2)
footprint R-0805
pins: 1, 2

## Res1_30
designator R?, comment 0.82, 2W
Value: 0.82, 2W; Category: Resistor SMD; PackageReference: Axial 0.3
footprint AXIAL-0.3 (Axial Device, Thru-Hole; 2 Leads; 0.3 in Pin Spacing)
simulation model RESISTOR (Resistor)
signal-integrity model Res
footprint 0805(2)
footprint AXIAL-0.4
footprint res 0805(2)
footprint RES AXIAL-0.9
footprint Cap 1206(2)
footprint RES AXIAL-0.6
footprint Resistor_Vertical3
pins: 1, 2

## Res1_31
designator R?, comment 47K
Value: 47K; Category: Resistor SMD; PackageReference: 0805
footprint AXIAL-0.3 (Axial Device, Thru-Hole; 2 Leads; 0.3 in Pin Spacing)
simulation model RESISTOR (Resistor)
signal-integrity model Res
footprint 0805(2)
footprint AXIAL-0.4
footprint res 0805(2)
footprint Res 0603(2)
footprint R-0805
pins: 1, 2

## Res1_32
designator R?, comment 3.3K
Value: 3.3K; Category: Resistor SMD; PackageReference: 0805
footprint AXIAL-0.3 (Axial Device, Thru-Hole; 2 Leads; 0.3 in Pin Spacing)
simulation model RESISTOR (Resistor)
signal-integrity model Res
footprint 0805(2)
footprint AXIAL-0.4
footprint res 0805(2)
footprint Res 0603(2)
footprint R-0805
pins: 1, 2

## Res1_33
designator R?, comment 10K, 2W
Value: 10K, 2W; Category: Resistor TH; PackageReference: Axial 0.4
footprint AXIAL-0.3 (Axial Device, Thru-Hole; 2 Leads; 0.3 in Pin Spacing)
simulation model RESISTOR (Resistor)
signal-integrity model Res
footprint 0805(2)
footprint AXIAL-0.4
footprint res 0805(2)
footprint AXIAL-0.5
footprint RES AXIAL-0.6
footprint Resistor_Vertical3
pins: 1, 2

## Res1_34
designator R?, comment 820R
Value: 820R; Category: Resistor SMD; PackageReference: 0805
footprint R1206-GREEN
footprint R-0805
pins: 1, 2

## Res1_35
designator R?, comment 27K
Value: 27K; Category: Resistor SMD; PackageReference: 0805
footprint R0805-HV-GREEN
footprint R-0805
pins: 1, 2

## Res1_36
designator R?, comment Short Cicuit
Value: Short Cicuit; Category: Resistor SMD; PackageReference: 1206
footprint AXIAL-0.3 (Axial Device, Thru-Hole; 2 Leads; 0.3 in Pin Spacing)
simulation model RESISTOR (Resistor)
signal-integrity model Res
footprint 0805(2)
footprint AXIAL-0.5
footprint RES AXIAL-0.4
footprint Res 1206(2)
footprint R-1206
pins: 1, 2

## Res2
designator NTC?, comment 10D-20(10R-20mm)
PackageReference: Disc 20mm; Value: 10D-20(10R-20mm); Category: NTC TH
footprint NTC
simulation model RESISTOR (Resistor)
signal-integrity model Res
footprint VDR-20D
pins: 1, 2

## Res2_1
designator NTC?, comment 4.7D-15(4.7R-15mm)
PackageReference: Disc 15mm; Value: 4.7D-15(4.7R-15mm); Category: NTC TH
footprint NTC
simulation model RESISTOR (Resistor)
signal-integrity model Res
footprint NTC-8mm
pins: 1, 2

## Res Semi
designator R?, comment 330K-Axial 0.8
Value: 330K-Axial 0.8; Category: Resistor TH; PackageReference: Axial 0.8
footprint Res-(1/1)
footprint SMD_RES_0805
footprint RES AXIAL-0.9
footprint Res DC Link  axial 0.6
pins: 1, 2

## Socket
designator CN?, comment Cable Lug
Category: Connector TH; PackageReference: Connector-Lug; Value: Cable Lug
footprint Pin header Cooleri
signal-integrity model Connector
footprint Fastontab_M6.35-f
footprint Connector-Lug
pins: 1

## Socket_1
designator CN?, comment Hole-Wire
Category: Hole-Wire; PackageReference: Hole-Wire; Value: Hole-Wire
footprint Pin header Cooleri
signal-integrity model Connector
footprint Fastontab_M6.35-f
footprint Connector-Lug
footprint Connector-Lug-2
pins: 1

## TEST POINT
designator TP?, comment RMS
Assembly: DNP; Value: RMS; Category: Test Point; PackageReference: Test Point
footprint Test Point2
footprint Test Point3
footprint TEST POINT4
footprint Test-Point
footprint Test-Point-small
pins: 1

## TEST POINT_1
designator TP?, comment IAC
Assembly: DNP; Value: IAC; Category: Test Point; PackageReference: Test Point
footprint Test Point2
footprint Test Point3
footprint TEST POINT4
footprint Test-Point
footprint Test-Point-small
pins: 1

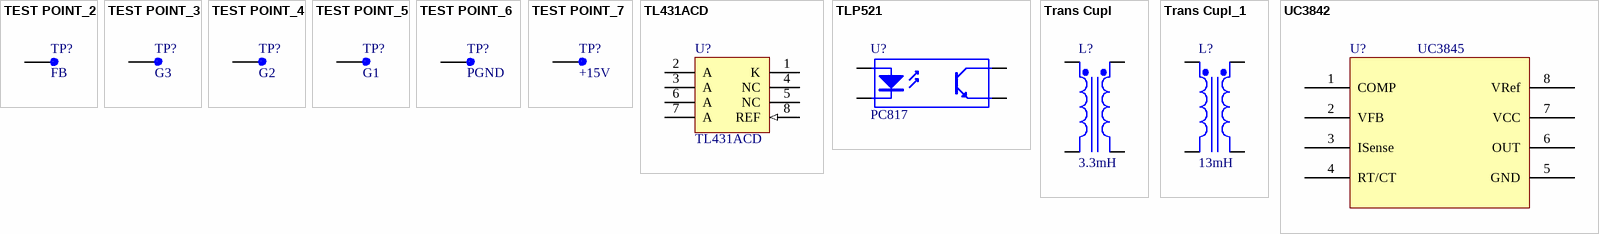
[diagram p3: symbols TEST POINT_2 to UC3842]

## TEST POINT_2
designator TP?, comment FB
Value: FB; Category: Test Point; PackageReference: Test Point
footprint Test Point2
footprint Test Point3
footprint TEST POINT4
footprint Test-Point
footprint Test-Point-small
pins: 1

## TEST POINT_3
designator TP?, comment G3
Assembly: DNP; Value: G3; Category: Test Point; PackageReference: Test Point
footprint Test Point2
footprint Test Point3
footprint TEST POINT4
footprint Test-Point
footprint Test-Point-small
pins: 1

## TEST POINT_4
designator TP?, comment G2
Assembly: DNP; Value: G2; Category: Test Point; PackageReference: Test Point
footprint Test Point2
footprint Test Point3
footprint TEST POINT4
footprint Test-Point
footprint Test-Point-small
pins: 1

## TEST POINT_5
designator TP?, comment G1
Assembly: DNP; Value: G1; Category: Test Point; PackageReference: Test Point
footprint Test Point2
footprint Test Point3
footprint TEST POINT4
footprint Test-Point
footprint Test-Point-small
pins: 1

## TEST POINT_6
designator TP?, comment PGND
Assembly: DNP; Value: PGND; Category: Test Point; PackageReference: Test Point
footprint Test Point2
footprint Test Point3
footprint TEST POINT4
footprint Test-Point
footprint Test-Point-small
pins: 1

## TEST POINT_7
designator TP?, comment +15V
Assembly: DNP; Value: +15V; Category: Test Point; PackageReference: Test Point
footprint Test Point2
footprint Test Point3
footprint TEST POINT4
footprint Test-Point
footprint Test-Point-small
pins: 1

## TL431ACD
designator U?
PackageReference: SO8; Category: IC SMD; Value: TL431ACD
footprint 751-05_N (SOIC, 8-Leads, Body 4.9x3.9mm, Pitch 1.27mm, IPC Medium Density)
footprint 751-05_L (SOIC, 8-Leads, Body 4.9x3.9mm, Pitch 1.27mm, IPC High Density)
footprint 751-05_M (SOIC, 8-Leads, Body 4.9x3.9mm, Pitch 1.27mm, IPC Low Density)
footprint so8+sot23
pins: 1 K, 2 A, 3 A, 4 NC, 5 NC, 6 A, 7 A, 8 REF (in)

## TLP521
designator U?, comment PC817
PackageReference: DIP-4; Value: PC817; Category: IC TH
footprint DIP-4 (DIP; 4 Leads; Row Spacing 7.62 mm; Pitch 2.54 mm)
footprint DIP_4
pins: 1 A "Anode", 2 K "Cathode", 3 E "Emitter", 4 C "Collector"

## Trans Cupl
designator L?, comment 3.3mH
PackageReference: TH 40mm*25mm; Value: 3.3mH; Category: Inductor EMI TH
footprint Trans line small-2
footprint Common Mode inductor
footprint Common Mode inductor-2
footprint Common Mode inductor-3
pins: 1 Pri+, 2 Pri-, 3 Sec+, 4 Sec-

## Trans Cupl_1
designator L?, comment 13mH
Category: Inductor TH; PackageReference: ???; Value: 13mH
footprint Trans line small-2
pins: 1 Pri+, 2 Pri-, 3 Sec+, 4 Sec-

## UC3842
designator U?, comment UC3845
Category: IC SMD; PackageReference: SO8; Value: UC3845
footprint So-8-W-L-fly
pins: 1 COMP, 2 VFB, 3 ISense, 4 RT/CT, 5 GND, 6 OUT, 7 VCC, 8 VRef